# EAGLE library part 42TL013 (library custom)
Audio Transformer, XICON
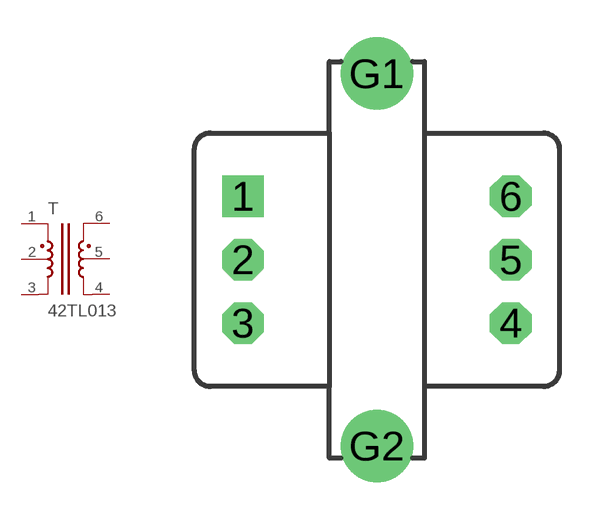
[diagram p2: symbol with the pads of TRANS_EI-14; footprint TRANS_EI-14]

Designator prefix T

## 42TL013  [TRANS_EI-14]
1  1  pas
2  2  pas
3  3  pas
4  4  pas
5  5  pas
6  6  pas

## Footprint TRANS_EI-14 (pad centres in mm)
drill 0.914 pad 1.676 square: 1 -5.362,2.54
drill 0.914 pad 1.676 octagon: 2 -5.362,0; 3 -5.362,-2.54; 4 5.362,-2.54; 5 5.362,0; 6 5.362,2.54
drill 1.93: G1 0,7.461; G2 0,-7.461